# Altium footprint library holes.PCBLIB: 30 footprints (part 1 of 2)
Each footprint in its own frame and in the unit in brackets; x right, y up, seen from the top. Pads: shape width x height; smd on the part's side, far side on the other; paste and mask are expansions set on the pad; w line width, h text height; cw(c..) or ccw(c..) is an arc to the next point about the centre after c.
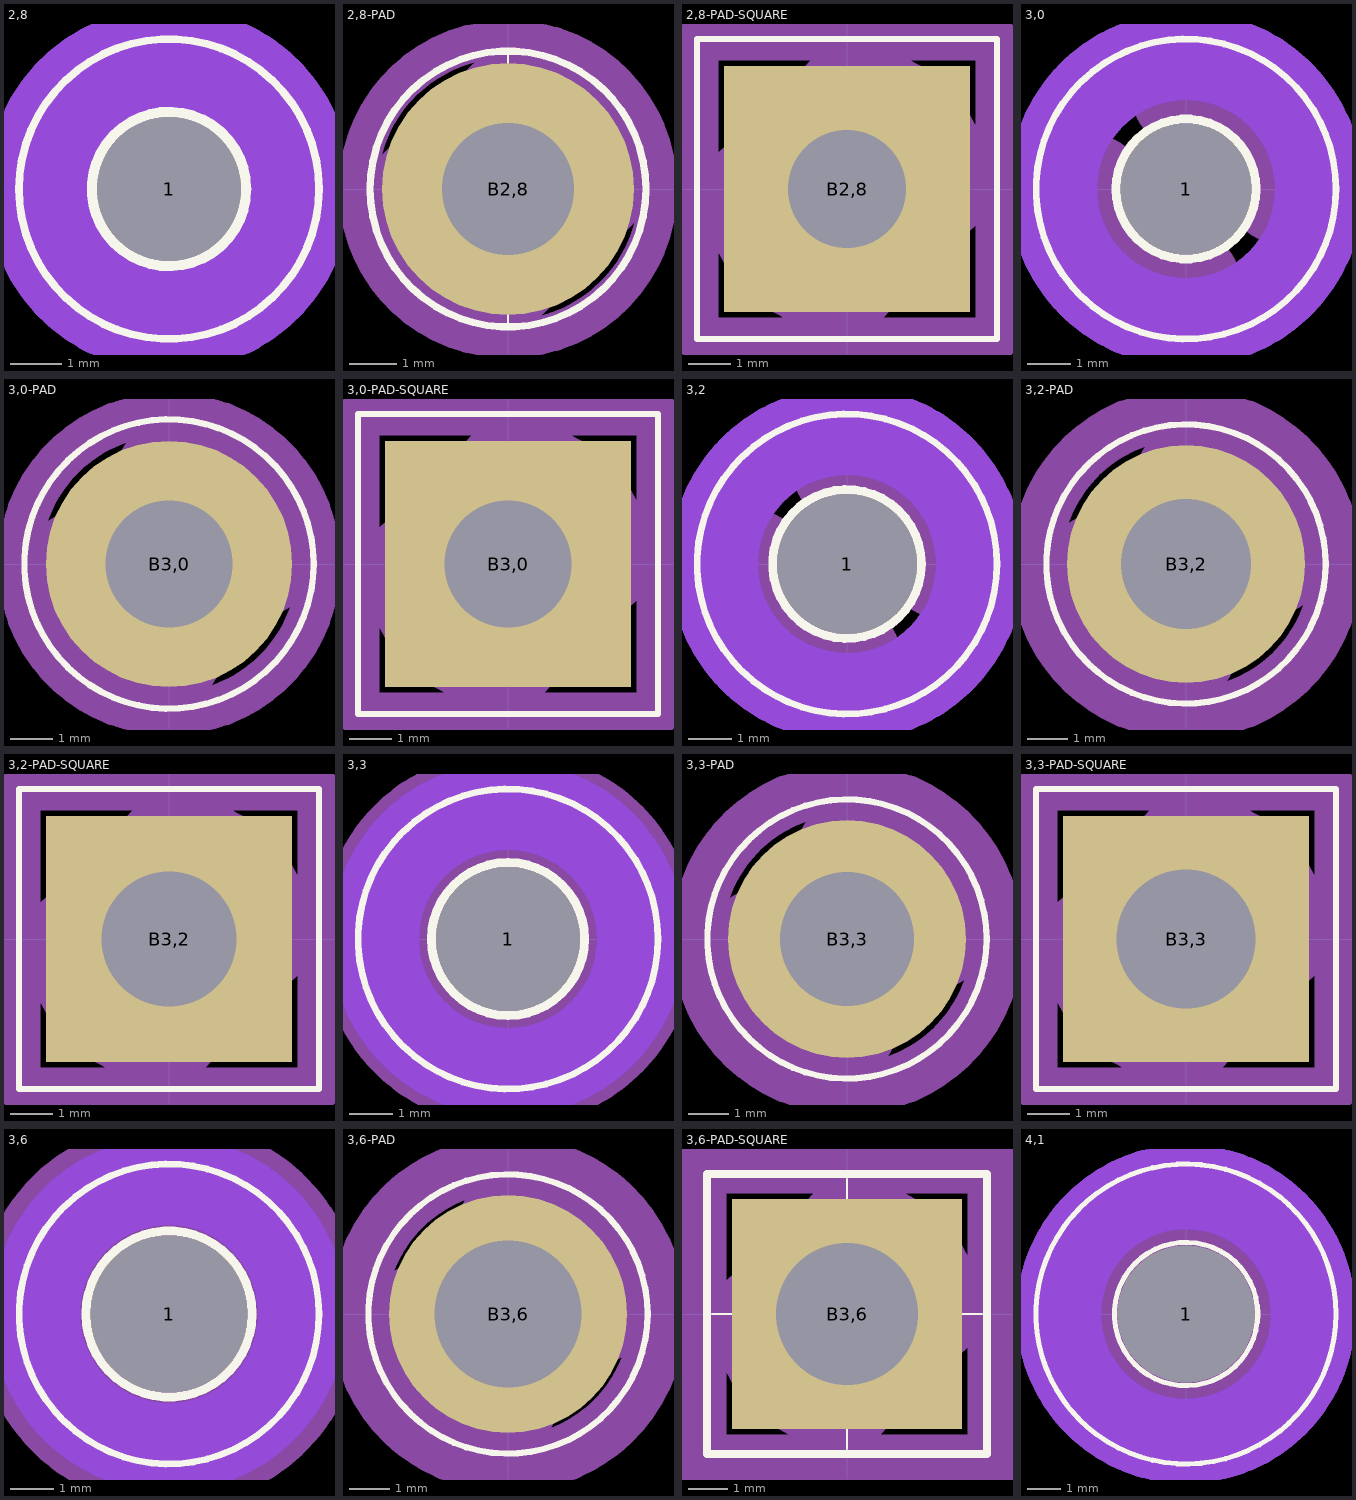
[diagram p0: the footprints below, top view; thin cyan lines are the x and y axes]

## 2,8 [mm]
pads (1):
  round 2.8 hole 2.8: 1(0,0)
Top Layer keep-out:
  circle w2.032: c0,0 r2.54
Bottom Layer keep-out:
  circle w2.032: c0,0 r2.54
Top Overlay:
  circle w0.152: c0,0 r2.921
  circle w0.203: c0,0 r1.5
Mechanical 16:
  circle w0.457: c0,0 r0.635
  lines w2.286: -1.778,0 ccw(c0,0) 0,-1.778 ; 0,1.778 cw(c0,0) 1.778,0
Via Holes:
  circle w2.032: c0,0 r2.54
Mechanical 27:
  circle w2.032: c0,0 r2.54
Mechanical 28:
  circle w2.032: c0,0 r2.54

## 2,8-PAD [mil]
pads (1):
  round 210 hole 110.24: B2,8(0,0)
Top Overlay:
  circle w6: c0,0 r115
  circle w8: c0,0 r59.06
  lines w2: 0,-115 0,-105 ; 0,105 0,115
Mechanical 16:
  circle w18: c0,0 r25
  lines w90: -70,0 ccw(c0,0) 0,-70 ; 0,70 cw(c0,0) 70,0
Via Holes:
  circle w32: c0,0 r125
Mechanical 27:
  circle w32: c0,0 r125
Mechanical 28:
  circle w32: c0,0 r125

## 2,8-PAD-SQUARE [mil]
pads (1):
  rect 230x230 hole 110.24: B2,8(0,0)
Top Overlay:
  circle w8: c0,0 r59.06
  lines w6: -140,-140 140,-140 140,140 -140,140 -140,-140
Mechanical 16:
  circle w18: c0,0 r30
  lines w98: -85,0 ccw(c0,0) 0,-85 ; 0,85 cw(c0,0) 85,0
Via Holes:
  lines w40: -140,-140 140,-140 140,140 -140,140 -140,-140
Mechanical 27:
  lines w40: -140,-140 140,-140 140,140 -140,140 -140,-140
Mechanical 28:
  lines w40: -140,-140 140,-140 140,140 -140,140 -140,-140

## 3,0 [mm]
pads (1):
  round 3 hole 3: 1(0,0)
Top Layer keep-out:
  circle w2.032: c0,0 r3.048
Bottom Layer keep-out:
  circle w2.032: c0,0 r3.048
Top Overlay:
  circle w0.152: c0,0 r3.429
  circle w0.203: c0,0 r1.6
Mechanical 13:
  text "3,0" at -1.27,-3.81 h1.97
Mechanical 16:
  circle w0.457: c0,0 r0.762
  lines w2.489: -2.159,0 ccw(c0,0) 0,-2.159 ; 0,2.159 cw(c0,0) 2.159,0
Via Holes:
  circle w2.032: c0,0 r3.048
Mechanical 27:
  circle w2.032: c0,0 r3.048
Mechanical 28:
  circle w2.032: c0,0 r3.048

## 3,0-PAD [mil]
pads (1):
  round 230 hole 118.11: B3,0(0,0)
Top Overlay:
  circle w6: c0,0 r135
  circle w8: c0,0 r62.99
Mechanical 13:
  text "3,0" at -50,-150 h77.5
Mechanical 16:
  circle w18: c0,0 r30
  lines w98: -85,0 ccw(c0,0) 0,-85 ; 0,85 cw(c0,0) 85,0
Via Holes:
  circle w40: c0,0 r140
Mechanical 27:
  circle w40: c0,0 r140
Mechanical 28:
  circle w40: c0,0 r140

## 3,0-PAD-SQUARE [mil]
pads (1):
  rect 230x230 hole 118.11: B3,0(0,0)
Top Overlay:
  circle w8: c0,0 r62.99
  lines w6: -140,-140 140,-140 140,140 -140,140 -140,-140
Mechanical 16:
  circle w18: c0,0 r30
  lines w98: -85,0 ccw(c0,0) 0,-85 ; 0,85 cw(c0,0) 85,0
Via Holes:
  lines w40: -140,-140 140,-140 140,140 -140,140 -140,-140
Mechanical 27:
  lines w40: -140,-140 140,-140 140,140 -140,140 -140,-140
Mechanical 28:
  lines w40: -140,-140 140,-140 140,140 -140,140 -140,-140

## 3,2 [mm]
pads (1):
  round 3.2 hole 3.2: 1(0,0)
Top Layer keep-out:
  circle w2.032: c0,0 r3.048
Bottom Layer keep-out:
  circle w2.032: c0,0 r3.048
Top Overlay:
  circle w0.152: c0,0 r3.429
  circle w0.203: c0,0 r1.7
Mechanical 16:
  circle w0.457: c0,0 r0.762
  lines w2.489: -2.159,0 ccw(c0,0) 0,-2.159 ; 0,2.159 cw(c0,0) 2.159,0
Via Holes:
  circle w2.032: c0,0 r3.048
Mechanical 27:
  circle w2.032: c0,0 r3.048
Mechanical 28:
  circle w2.032: c0,0 r3.048

## 3,2-PAD [mil]
pads (1):
  round 230 hole 125.98: B3,2(0,0)
Top Overlay:
  circle w6: c0,0 r135
  circle w6: c0,0 r66.93
Mechanical 13:
  text "3,2" at -50,-150 h77.5
Mechanical 16:
  circle w18: c0,0 r30
  lines w98: -85,0 ccw(c0,0) 0,-85 ; 0,85 cw(c0,0) 85,0
Via Holes:
  circle w40: c0,0 r140
Mechanical 27:
  circle w50: c0,0 r145
Mechanical 28:
  circle w50: c0,0 r145

## 3,2-PAD-SQUARE [mil]
pads (1):
  rect 230x230 hole 125.98: B3,2(0,0)
Top Overlay:
  circle w8: c0,0 r66.93
  lines w6: -140,-140 140,-140 140,140 -140,140 -140,-140
Mechanical 16:
  circle w18: c0,0 r30
  lines w98: -85,0 ccw(c0,0) 0,-85 ; 0,85 cw(c0,0) 85,0
Via Holes:
  lines w40: -140,-140 140,-140 140,140 -140,140 -140,-140
Mechanical 27:
  lines w40: -140,-140 140,-140 140,140 -140,140 -140,-140
Mechanical 28:
  lines w40: -140,-140 140,-140 140,140 -140,140 -140,-140

## 3,3 [mm]
pads (1):
  round 3.3 hole 3.3: 1(0,0)
Top Layer keep-out:
  circle w2.032: c0,0 r3.048
Bottom Layer keep-out:
  circle w2.032: c0,0 r3.048
Top Overlay:
  circle w0.152: c0,0 r3.429
  circle w0.203: c0,0 r1.75
Mechanical 16:
  circle w0.457: c0,0 r0.762
  lines w2.489: -2.159,0 ccw(c0,0) 0,-2.159 ; 0,2.159 cw(c0,0) 2.159,0
Via Holes:
  circle w2.032: c0,0 r3.048
Mechanical 27:
  circle w2.54: c0,0 r3.048
Mechanical 28:
  circle w2.54: c0,0 r3.048

## 3,3-PAD [mil]
pads (1):
  round 230 hole 129.92: B3,3(0,0)
Top Overlay:
  circle w6: c0,0 r135
  circle w8: c0,0 r66.93
Mechanical 16:
  circle w18: c0,0 r30
  lines w98: -85,0 ccw(c0,0) 0,-85 ; 0,85 cw(c0,0) 85,0
Via Holes:
  circle w40: c0,0 r140
Mechanical 27:
  circle w50: c0,0 r145
Mechanical 28:
  circle w50: c0,0 r145

## 3,3-PAD-SQUARE [mil]
pads (1):
  rect 230x230 hole 129.92: B3,3(0,0)
Top Overlay:
  circle w8: c0,0 r68.9
  lines w6: -140,-140 140,-140 140,140 -140,140 -140,-140
Mechanical 16:
  circle w18: c0,0 r30
  lines w98: -85,0 ccw(c0,0) 0,-85 ; 0,85 cw(c0,0) 85,0
Via Holes:
  lines w40: -140,-140 140,-140 140,140 -140,140 -140,-140
Mechanical 27:
  lines w40: -140,-140 140,-140 140,140 -140,140 -140,-140
Mechanical 28:
  lines w40: -140,-140 140,-140 140,140 -140,140 -140,-140

## 3,6 [mm]
pads (1):
  round 3.6 hole 3.6: 1(0,0)
Top Layer keep-out:
  circle w2.032: c0,0 r3.048
Bottom Layer keep-out:
  circle w2.032: c0,0 r3.048
Top Overlay:
  circle w0.152: c0,0 r3.429
  circle w0.203: c0,0 r1.9
Mechanical 16:
  circle w0.457: c0,0 r0.762
  lines w2.489: -2.159,0 ccw(c0,0) 0,-2.159 ; 0,2.159 cw(c0,0) 2.159,0
Via Holes:
  circle w2.032: c0,0 r3.048
Mechanical 27:
  circle w2.769: c0,0 r3.048
Mechanical 28:
  circle w2.769: c0,0 r3.048

## 3,6-PAD [mil]
pads (1):
  round 230 hole 141.73: B3,6(0,0)
Top Overlay:
  circle w6: c0,0 r135
  circle w8: c0,0 r74.8
Mechanical 16:
  circle w18: c0,0 r30
  lines w98: -85,0 ccw(c0,0) 0,-85 ; 0,85 cw(c0,0) 85,0
Via Holes:
  circle w40: c0,0 r140
Mechanical 27:
  circle w55: c0,0 r145
Mechanical 28:
  circle w55: c0,0 r145

## 3,6-PAD-SQUARE [mil]
pads (1):
  rect 230x230 hole 141.73: B3,6(0,0)
Top Overlay:
  circle w8: c0,0 r74.8
  lines w2: -135,0 -115,0 ; 0,-135 0,-115 ; 0,115 0,135 ; 115,0 135,0
  lines w8: -140,-140 140,-140 140,140 -140,140 -140,-140
Mechanical 16:
  circle w18: c0,0 r30
  lines w98: -85,0 ccw(c0,0) 0,-85 ; 0,85 cw(c0,0) 85,0
Via Holes:
  lines w59.06: -150,-150 150,-150 150,150 -150,150 -150,-150
Mechanical 27:
  lines w59.06: -150,-150 150,-150 150,150 -150,150 -150,-150
Mechanical 28:
  lines w59.06: -150,-150 150,-150 150,150 -150,150 -150,-150

## 4,1 [mm]
pads (1):
  round 4.1 hole 4.1: 1(0,0)
Top Layer keep-out:
  circle w2.54: c0,0 r3.81
Bottom Layer keep-out:
  circle w2.54: c0,0 r3.81
Top Overlay:
  circle w0.152: c0,0 r4.496
  circle w0.152: c0,0 r2.15
Mechanical 16:
  circle w0.457: c0,0 r0.762
  lines w3.912: -2.54,0 ccw(c0,0) 0,-2.54 ; 0,2.54 cw(c0,0) 2.54,0
Via Holes:
  circle w2.54: c0,0 r3.81
Mechanical 27:
  circle w2.54: c0,0 r3.81
Mechanical 28:
  circle w2.54: c0,0 r3.81